# Altium integrated library TI Power Management Power Modules.IntLib: 831 symbols (part 23 of 44)
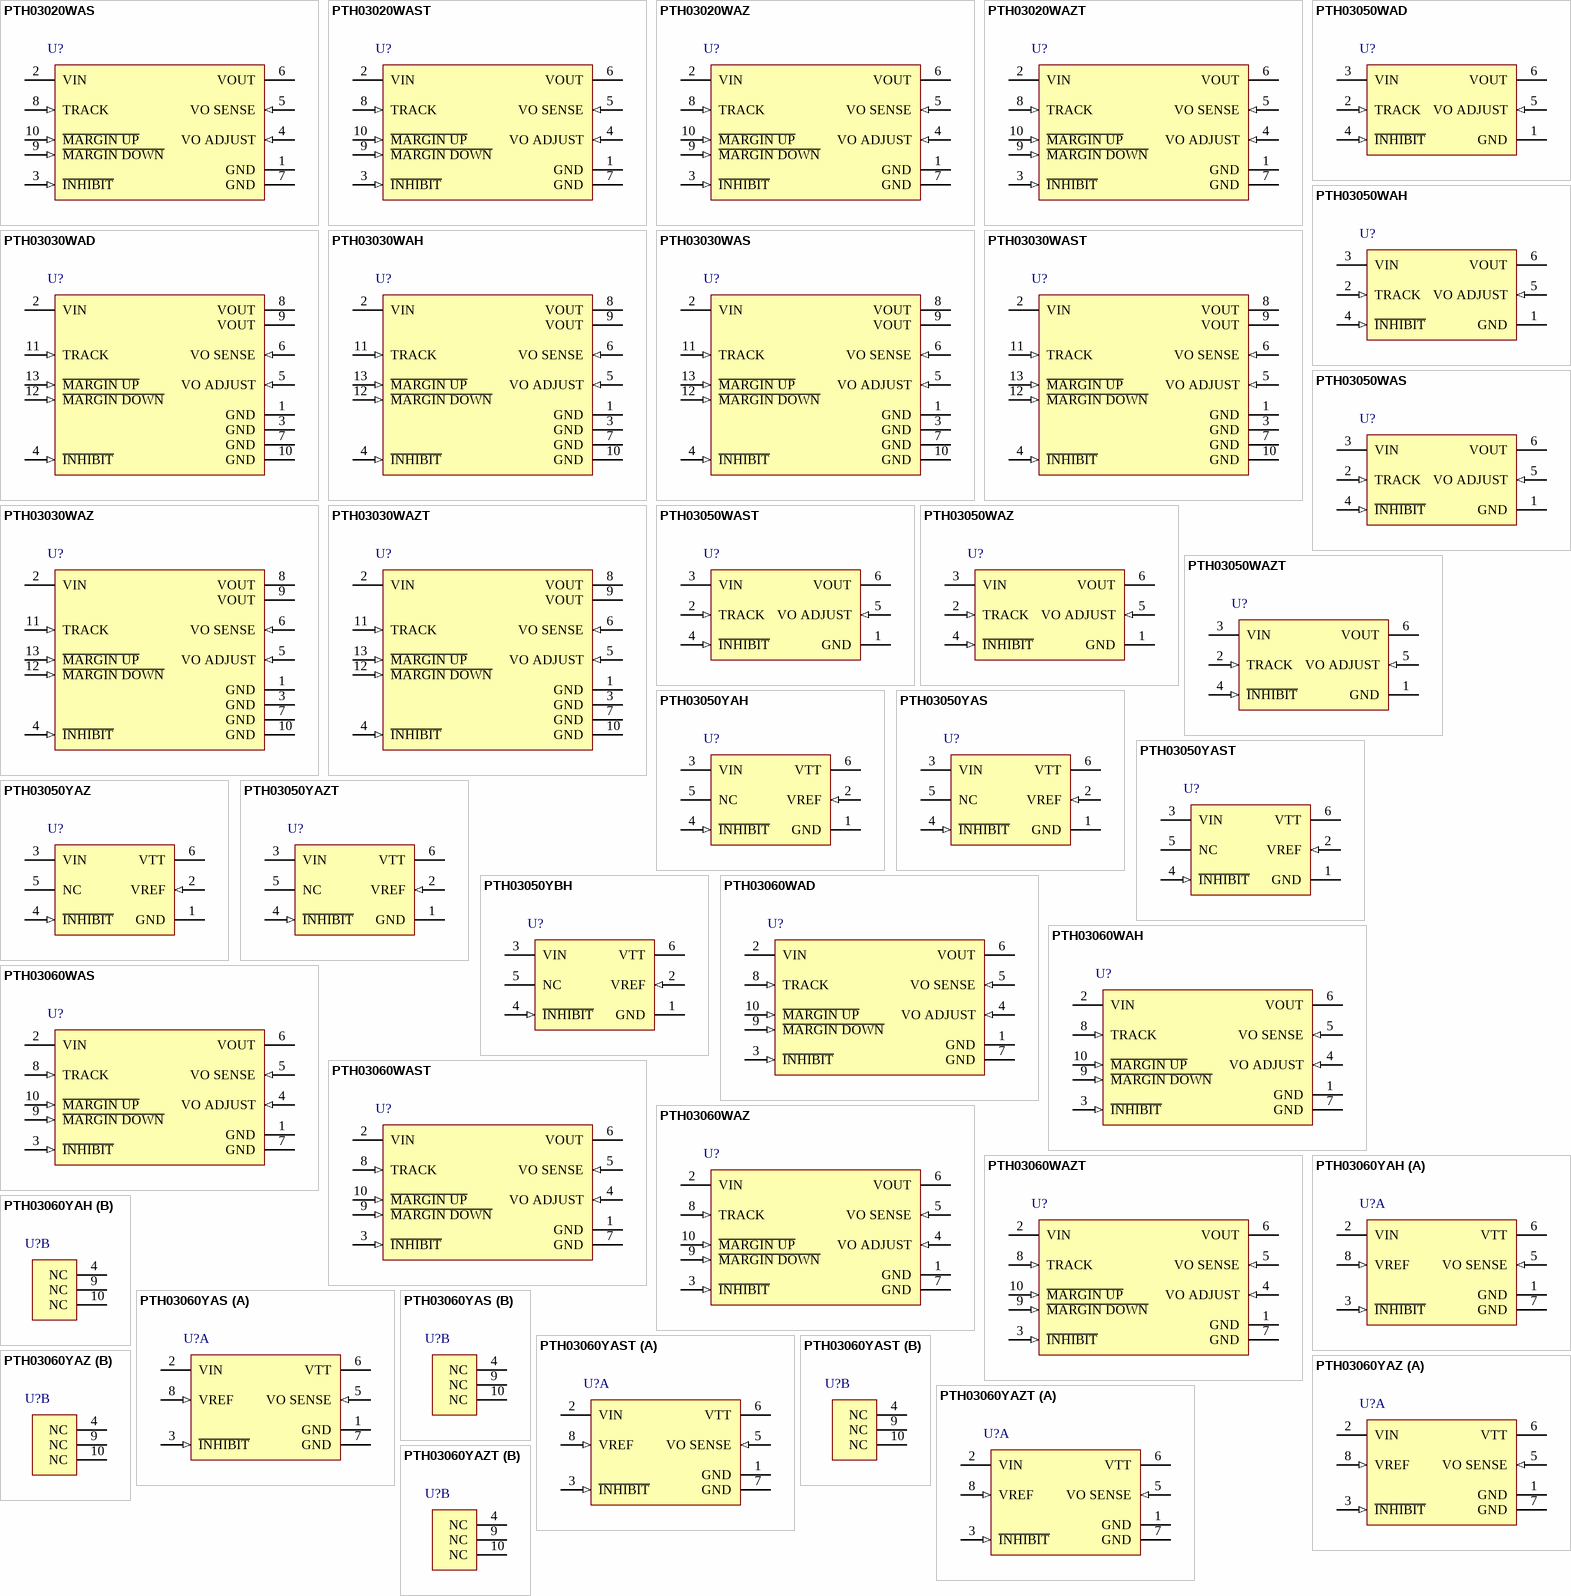
[diagram p45: symbols PTH03020WAS to PTH03060YAZT]

## PTH03030WAS
designator U?
30 A, 3.3 V Input Wide-Output Adjust Plug-in Power Module, -40 to 85 degC, 13-pin Module (EUN13); Manufacturer: Texas Instruments; PartNumber: PTH03030WAS; Eco-Plan: TBD; Iout(Max)(A): 30; Regulated Outputs(#): 1; SubFamily: Non-Isolated POL; Vin(Max)(V): 3.65; Vin(Min)(V): 2.95; VO Adjustable: TRUE; Vout(Max)(V): 2.5; Vout(Min)(V): 0.8; DatasheetVersion: SLTS209B; PackageVersion: 4204989/B; PackageReference: EUN13; PackageDescription: 13-Pin Plastic Special Shape. Body 28.45 x 34.8 mm; Supplier 1: Digi-Key; Supplier Part Number 1: 296-20379-ND; Supplier 2: Mouser; Supplier Part Number 2: 595-PTH03030WAS; Mounting Technology: Surface Mount; ComponentLink1Description: Manufacturer URL; ComponentLink1URL: http://www.ti.com/; ComponentLink2Description: Datasheet; ComponentLink2URL: http://www.ti.com/general/docs/lit/getliterature.tsp?genericPartNumber=PTH03030W&fileType=pdf; ComponentLink3Description: Package Specification; ComponentLink3URL: http://www.ti.com/lit/ml/mpds135a/mpds135a.pdf; ComponentLink4Description: URL Link1; ComponentLink4URL: Samples URL:http://www.ti.com/product/pth03030w#samples
footprint TI-EUN13_V (Module, 13-Leads, Body 34.8x28.45mm)
pins: 1 GND (power) "This is the common ground connection for the Vin and Vout power connections. It is also the 0 VDC reference for the control inputs.", 2 VIN (power) "The positive input voltage power node to the module, which is referenced to common GND.", 3 GND (power) "This is the common ground connection for the Vin and Vout power connections. It is also the 0 VDC reference for the control inputs.", 4 ~{INHIBIT} (in) "The Inhibit pin is an open-collector/drain negative logic input that is referenced to GND. Applying a lowlevel ground signal to this input disables the module’s output and turns off the output voltage. When the Inhibit (See Datasheet)", 5 VO ADJUST (in) "A 0.1 W 1 % resistor must be directly connected between this pin and pin 7 (GND) to set the output voltage to a value higher than 0.8 V. The temperature stability of the resistor should be 100 ppm/degreesC (or better). The (See Datasheet)", 6 VO SENSE (in) "The sense input allows the regulation circuit to compensate for voltage drop between the module and the load. For optimal voltage accuracy Vo Sense should be connected to Vout. It can also be left disconnected.", 7 GND (power) "This is the common ground connection for the Vin and Vout power connections. It is also the 0 VDC reference for the control inputs.", 8 VOUT (power) "The regulated positive power output with respect to the GND node.", 9 VOUT (power) "The regulated positive power output with respect to the GND node.", 10 GND (power) "This is the common ground connection for the Vin and Vout power connections. It is also the 0 VDC reference for the control inputs.", 11 TRACK (in) "This is an analog control input that enables the output voltage to follow an external voltage. This pin becomes active typically 20 ms after the input voltage has been applied, and allows direct control of the output voltage (See Datasheet)", 12 ~{MARGIN DOWN} (in) "When this input is asserted to GND, the output voltage is decreased by 5% from the nominal. The input requires an open-collector (open-drain) interface. It is not TTL compatible. A lower percent change can be accomodated (See Datasheet)", 13 ~{MARGIN UP} (in) "When this input is asserted to GND, the output voltage is increased by 5%. The input requires an open-collector (open-drain) interface. It is not TTL compatible. The percent change can be reduced with a series resistor. For (See Datasheet)"

## PTH03030WAST
designator U?
30 A, 3.3 V Input Wide-Output Adjust Plug-in Power Module, -40 to 85 degC, 13-pin Module (EUN13); Manufacturer: Texas Instruments; PartNumber: PTH03030WAST; Eco-Plan: TBD; Iout(Max)(A): 30; Regulated Outputs(#): 1; SubFamily: Non-Isolated POL; Vin(Max)(V): 3.65; Vin(Min)(V): 2.95; VO Adjustable: TRUE; Vout(Max)(V): 2.5; Vout(Min)(V): 0.8; DatasheetVersion: SLTS209B; PackageVersion: 4204989/B; PackageReference: EUN13; PackageDescription: 13-Pin Plastic Special Shape. Body 28.45 x 34.8 mm; Supplier 1: Digi-Key; Supplier Part Number 1: PTH03030WAST-ND; Supplier 2: Newark; Supplier Part Number 2: 01J0626; Supplier 3: Mouser; Supplier Part Number 3: 595-PTH03030WAST; Mounting Technology: Surface Mount; ComponentLink1Description: Manufacturer URL; ComponentLink1URL: http://www.ti.com/; ComponentLink2Description: Datasheet; ComponentLink2URL: http://www.ti.com/general/docs/lit/getliterature.tsp?genericPartNumber=PTH03030W&fileType=pdf; ComponentLink3Description: Package Specification; ComponentLink3URL: http://www.ti.com/lit/ml/mpds135a/mpds135a.pdf; ComponentLink4Description: URL Link1; ComponentLink4URL: Samples URL:http://www.ti.com/product/pth03030w#samples
footprint TI-EUN13_V (Module, 13-Leads, Body 34.8x28.45mm)
pins: 1 GND (power) "This is the common ground connection for the Vin and Vout power connections. It is also the 0 VDC reference for the control inputs.", 2 VIN (power) "The positive input voltage power node to the module, which is referenced to common GND.", 3 GND (power) "This is the common ground connection for the Vin and Vout power connections. It is also the 0 VDC reference for the control inputs.", 4 ~{INHIBIT} (in) "The Inhibit pin is an open-collector/drain negative logic input that is referenced to GND. Applying a lowlevel ground signal to this input disables the module’s output and turns off the output voltage. When the Inhibit (See Datasheet)", 5 VO ADJUST (in) "A 0.1 W 1 % resistor must be directly connected between this pin and pin 7 (GND) to set the output voltage to a value higher than 0.8 V. The temperature stability of the resistor should be 100 ppm/degreesC (or better). The (See Datasheet)", 6 VO SENSE (in) "The sense input allows the regulation circuit to compensate for voltage drop between the module and the load. For optimal voltage accuracy Vo Sense should be connected to Vout. It can also be left disconnected.", 7 GND (power) "This is the common ground connection for the Vin and Vout power connections. It is also the 0 VDC reference for the control inputs.", 8 VOUT (power) "The regulated positive power output with respect to the GND node.", 9 VOUT (power) "The regulated positive power output with respect to the GND node.", 10 GND (power) "This is the common ground connection for the Vin and Vout power connections. It is also the 0 VDC reference for the control inputs.", 11 TRACK (in) "This is an analog control input that enables the output voltage to follow an external voltage. This pin becomes active typically 20 ms after the input voltage has been applied, and allows direct control of the output voltage (See Datasheet)", 12 ~{MARGIN DOWN} (in) "When this input is asserted to GND, the output voltage is decreased by 5% from the nominal. The input requires an open-collector (open-drain) interface. It is not TTL compatible. A lower percent change can be accomodated (See Datasheet)", 13 ~{MARGIN UP} (in) "When this input is asserted to GND, the output voltage is increased by 5%. The input requires an open-collector (open-drain) interface. It is not TTL compatible. The percent change can be reduced with a series resistor. For (See Datasheet)"

## PTH03030WAZ
designator U?
30 A, 3.3 V Input Wide-Output Adjust Plug-in Power Module, -40 to 85 degC, 13-pin Module (EUN13), Pb-Free (RoHS); Manufacturer: Texas Instruments; PartNumber: PTH03030WAZ; Iout(Max)(A): 30; Regulated Outputs(#): 1; SubFamily: Non-Isolated POL; Vin(Max)(V): 3.65; Vin(Min)(V): 2.95; VO Adjustable: TRUE; Vout(Max)(V): 2.5; Vout(Min)(V): 0.8; DatasheetVersion: SLTS209B; PackageVersion: 4204989/B; PackageReference: EUN13; PackageDescription: 13-Pin Plastic Special Shape. Body 28.45 x 34.8 mm; Supplier 1: Digi-Key; Supplier Part Number 1: 296-20380-ND; Supplier 2: Newark; Supplier Part Number 2: 37K0701; Supplier 3: Mouser; Supplier Part Number 3: 595-PTH03030WAZ; Eco-Plan: Pb-Free (RoHS); Mounting Technology: Surface Mount; ComponentLink1Description: Manufacturer URL; ComponentLink1URL: http://www.ti.com/; ComponentLink2Description: Datasheet; ComponentLink2URL: http://www.ti.com/general/docs/lit/getliterature.tsp?genericPartNumber=PTH03030W&fileType=pdf; ComponentLink3Description: Package Specification; ComponentLink3URL: http://www.ti.com/lit/ml/mpds135a/mpds135a.pdf; ComponentLink4Description: URL Link1; ComponentLink4URL: Samples URL:http://www.ti.com/product/pth03030w#samples
footprint TI-EUN13_V (Module, 13-Leads, Body 34.8x28.45mm)
pins: 1 GND (power) "This is the common ground connection for the Vin and Vout power connections. It is also the 0 VDC reference for the control inputs.", 2 VIN (power) "The positive input voltage power node to the module, which is referenced to common GND.", 3 GND (power) "This is the common ground connection for the Vin and Vout power connections. It is also the 0 VDC reference for the control inputs.", 4 ~{INHIBIT} (in) "The Inhibit pin is an open-collector/drain negative logic input that is referenced to GND. Applying a lowlevel ground signal to this input disables the module’s output and turns off the output voltage. When the Inhibit (See Datasheet)", 5 VO ADJUST (in) "A 0.1 W 1 % resistor must be directly connected between this pin and pin 7 (GND) to set the output voltage to a value higher than 0.8 V. The temperature stability of the resistor should be 100 ppm/degreesC (or better). The (See Datasheet)", 6 VO SENSE (in) "The sense input allows the regulation circuit to compensate for voltage drop between the module and the load. For optimal voltage accuracy Vo Sense should be connected to Vout. It can also be left disconnected.", 7 GND (power) "This is the common ground connection for the Vin and Vout power connections. It is also the 0 VDC reference for the control inputs.", 8 VOUT (power) "The regulated positive power output with respect to the GND node.", 9 VOUT (power) "The regulated positive power output with respect to the GND node.", 10 GND (power) "This is the common ground connection for the Vin and Vout power connections. It is also the 0 VDC reference for the control inputs.", 11 TRACK (in) "This is an analog control input that enables the output voltage to follow an external voltage. This pin becomes active typically 20 ms after the input voltage has been applied, and allows direct control of the output voltage (See Datasheet)", 12 ~{MARGIN DOWN} (in) "When this input is asserted to GND, the output voltage is decreased by 5% from the nominal. The input requires an open-collector (open-drain) interface. It is not TTL compatible. A lower percent change can be accomodated (See Datasheet)", 13 ~{MARGIN UP} (in) "When this input is asserted to GND, the output voltage is increased by 5%. The input requires an open-collector (open-drain) interface. It is not TTL compatible. The percent change can be reduced with a series resistor. For (See Datasheet)"

## PTH03030WAZT
designator U?
30 A, 3.3 V Input Wide-Output Adjust Plug-in Power Module, -40 to 85 degC, 13-pin Module (EUN13), Pb-Free (RoHS); Manufacturer: Texas Instruments; PartNumber: PTH03030WAZT; Iout(Max)(A): 30; Regulated Outputs(#): 1; SubFamily: Non-Isolated POL; Vin(Max)(V): 3.65; Vin(Min)(V): 2.95; VO Adjustable: TRUE; Vout(Max)(V): 2.5; Vout(Min)(V): 0.8; DatasheetVersion: SLTS209B; PackageVersion: 4204989/B; PackageReference: EUN13; PackageDescription: 13-Pin Plastic Special Shape. Body 28.45 x 34.8 mm; Supplier 1: Digi-Key; Supplier Part Number 1: PTH03030WAZT-ND; Supplier 2: Newark; Supplier Part Number 2: 37K0702; Supplier 3: Mouser; Supplier Part Number 3: 595-PTH03030WAZT; Eco-Plan: Pb-Free (RoHS); Mounting Technology: Surface Mount; ComponentLink1Description: Manufacturer URL; ComponentLink1URL: http://www.ti.com/; ComponentLink2Description: Datasheet; ComponentLink2URL: http://www.ti.com/general/docs/lit/getliterature.tsp?genericPartNumber=PTH03030W&fileType=pdf; ComponentLink3Description: Package Specification; ComponentLink3URL: http://www.ti.com/lit/ml/mpds135a/mpds135a.pdf; ComponentLink4Description: URL Link1; ComponentLink4URL: Samples URL:http://www.ti.com/product/pth03030w#samples
footprint TI-EUN13_V (Module, 13-Leads, Body 34.8x28.45mm)
pins: 1 GND (power) "This is the common ground connection for the Vin and Vout power connections. It is also the 0 VDC reference for the control inputs.", 2 VIN (power) "The positive input voltage power node to the module, which is referenced to common GND.", 3 GND (power) "This is the common ground connection for the Vin and Vout power connections. It is also the 0 VDC reference for the control inputs.", 4 ~{INHIBIT} (in) "The Inhibit pin is an open-collector/drain negative logic input that is referenced to GND. Applying a lowlevel ground signal to this input disables the module’s output and turns off the output voltage. When the Inhibit (See Datasheet)", 5 VO ADJUST (in) "A 0.1 W 1 % resistor must be directly connected between this pin and pin 7 (GND) to set the output voltage to a value higher than 0.8 V. The temperature stability of the resistor should be 100 ppm/degreesC (or better). The (See Datasheet)", 6 VO SENSE (in) "The sense input allows the regulation circuit to compensate for voltage drop between the module and the load. For optimal voltage accuracy Vo Sense should be connected to Vout. It can also be left disconnected.", 7 GND (power) "This is the common ground connection for the Vin and Vout power connections. It is also the 0 VDC reference for the control inputs.", 8 VOUT (power) "The regulated positive power output with respect to the GND node.", 9 VOUT (power) "The regulated positive power output with respect to the GND node.", 10 GND (power) "This is the common ground connection for the Vin and Vout power connections. It is also the 0 VDC reference for the control inputs.", 11 TRACK (in) "This is an analog control input that enables the output voltage to follow an external voltage. This pin becomes active typically 20 ms after the input voltage has been applied, and allows direct control of the output voltage (See Datasheet)", 12 ~{MARGIN DOWN} (in) "When this input is asserted to GND, the output voltage is decreased by 5% from the nominal. The input requires an open-collector (open-drain) interface. It is not TTL compatible. A lower percent change can be accomodated (See Datasheet)", 13 ~{MARGIN UP} (in) "When this input is asserted to GND, the output voltage is increased by 5%. The input requires an open-collector (open-drain) interface. It is not TTL compatible. The percent change can be reduced with a series resistor. For (See Datasheet)"

## PTH03050WAD
designator U?
6 A, 3.3 V Input Non-Isolated Wide Adjust Module with Auto-Track, -40 to 85 degC, 6-pin Module (EUU6), Pb-Free (RoHS); Manufacturer: Texas Instruments; PartNumber: PTH03050WAD; Iout(Max)(A): 6; Regulated Outputs(#): 1; SubFamily: Non-Isolated POL; Vin(Max)(V): 3.65; Vin(Min)(V): 2.95; VO Adjustable: TRUE; Vout(Max)(V): 2.5; Vout(Min)(V): 0.8; DatasheetVersion: SLTS212C; PackageVersion: 4205246-4/C; PackageReference: EUU6; PackageDescription: 6-Pin Plastic Special Shape, Body 12.57 x 22.1 mm; Supplier 1: Digi-Key; Supplier Part Number 1: 296-32713-ND; Supplier 2: Farnell; Supplier Part Number 2: 1103273; Supplier 3: Newark; Supplier Part Number 3: 63K6092; Supplier 4: Mouser; Supplier Part Number 4: 595-PTH03050WAD; Eco-Plan: Pb-Free (RoHS); Mounting Technology: Through Hole; ComponentLink1Description: Manufacturer URL; ComponentLink1URL: http://www.ti.com/; ComponentLink2Description: Datasheet; ComponentLink2URL: http://www.ti.com/general/docs/lit/getliterature.tsp?genericPartNumber=PTH03050W&fileType=pdf; ComponentLink3Description: Package Specification; ComponentLink3URL: http://www.ti.com/lit/ml/mpds142b/mpds142b.pdf; ComponentLink4Description: URL Link1; ComponentLink4URL: Samples URL:http://www.ti.com/product/pth03050w#samples
footprint TI-EUU6_V (Module, 6-Leads, Body 22.1.12x12.57mm)
pins: 1 GND (power) "This is the common ground connection for the VI and VO power connections. It is also the 0 Vdc reference for the Inhibit , the VO Adjust, and the Track control inputs.", 2 TRACK (in) "This is an analog control input that enables the output voltage to follow an external voltage. This pin becomes active typically 20 ms after the input voltage has been applied, and allows direct control of the output voltage (See Datasheet)", 3 VIN (power) "The positive input voltage power node to the module, which is referenced to common GND.", 4 ~{INHIBIT} (in) "The Inhibit pin is an open-collector/drain-negative logic input that is referenced to GND. Applying a low-level ground signal to this input disables the module's output. When the Inhibit control is active, the input current (See Datasheet)", 5 VO ADJUST (in) "A 0.1 W 1 % resistor must be directly connected between this pin and GND to set the output voltage to a value higher than 0.8 V. The temperature stability of the resistor should be 100 ppm/degreesC (or better). The setpoint (See Datasheet)", 6 VOUT (power) "The regulated positive power output with respect to the GND node"

## PTH03050WAH
designator U?
6 A, 3.3 V Input Non-Isolated Wide Adjust Module with Auto-Track, -40 to 85 degC, 6-pin Module (EUU6), Pb-Free (RoHS); Manufacturer: Texas Instruments; PartNumber: PTH03050WAH; Iout(Max)(A): 6; Regulated Outputs(#): 1; SubFamily: Non-Isolated POL; Vin(Max)(V): 3.65; Vin(Min)(V): 2.95; VO Adjustable: TRUE; Vout(Max)(V): 2.5; Vout(Min)(V): 0.8; DatasheetVersion: SLTS212C; PackageVersion: 4205246-4/C; PackageReference: EUU6; PackageDescription: 6-Pin Plastic Special Shape, Body 12.57 x 22.1 mm; Supplier 1: Digi-Key; Supplier Part Number 1: 296-20381-ND; Supplier 2: Newark; Supplier Part Number 2: 90H3318; Supplier 3: Mouser; Supplier Part Number 3: 595-PTH03050WAH; Eco-Plan: Pb-Free (RoHS); Mounting Technology: Through Hole; ComponentLink1Description: Manufacturer URL; ComponentLink1URL: http://www.ti.com/; ComponentLink2Description: Datasheet; ComponentLink2URL: http://www.ti.com/general/docs/lit/getliterature.tsp?genericPartNumber=PTH03050W&fileType=pdf; ComponentLink3Description: Package Specification; ComponentLink3URL: http://www.ti.com/lit/ml/mpds142b/mpds142b.pdf; ComponentLink4Description: URL Link1; ComponentLink4URL: Samples URL:http://www.ti.com/product/pth03050w#samples
footprint TI-EUU6_V (Module, 6-Leads, Body 22.1.12x12.57mm)
pins: 1 GND (power) "This is the common ground connection for the VI and VO power connections. It is also the 0 Vdc reference for the Inhibit , the VO Adjust, and the Track control inputs.", 2 TRACK (in) "This is an analog control input that enables the output voltage to follow an external voltage. This pin becomes active typically 20 ms after the input voltage has been applied, and allows direct control of the output voltage (See Datasheet)", 3 VIN (power) "The positive input voltage power node to the module, which is referenced to common GND.", 4 ~{INHIBIT} (in) "The Inhibit pin is an open-collector/drain-negative logic input that is referenced to GND. Applying a low-level ground signal to this input disables the module's output. When the Inhibit control is active, the input current (See Datasheet)", 5 VO ADJUST (in) "A 0.1 W 1 % resistor must be directly connected between this pin and GND to set the output voltage to a value higher than 0.8 V. The temperature stability of the resistor should be 100 ppm/degreesC (or better). The setpoint (See Datasheet)", 6 VOUT (power) "The regulated positive power output with respect to the GND node"

## PTH03050WAS
designator U?
6 A, 3.3 V Input Non-Isolated Wide Adjust Module with Auto-Track, -40 to 85 degC, 6-pin Module (EUV6); Manufacturer: Texas Instruments; PartNumber: PTH03050WAS; Eco-Plan: TBD; Iout(Max)(A): 6; Regulated Outputs(#): 1; SubFamily: Non-Isolated POL; Vin(Max)(V): 3.65; Vin(Min)(V): 2.95; VO Adjustable: TRUE; Vout(Max)(V): 2.5; Vout(Min)(V): 0.8; DatasheetVersion: SLTS212C; PackageVersion: 4205247-4/C; PackageReference: EUV6; PackageDescription: 6-Pin Plastic Special Shape, Body 12.57 x 22.1 mm; Supplier 1: Digi-Key; Supplier Part Number 1: 296-20382-ND; Supplier 2: Newark; Supplier Part Number 2: 90H3319; Supplier 3: Mouser; Supplier Part Number 3: 595-PTH03050WAS; Mounting Technology: Surface Mount; ComponentLink1Description: Manufacturer URL; ComponentLink1URL: http://www.ti.com/; ComponentLink2Description: Datasheet; ComponentLink2URL: http://www.ti.com/general/docs/lit/getliterature.tsp?genericPartNumber=PTH03050W&fileType=pdf; ComponentLink3Description: Package Specification; ComponentLink3URL: http://www.ti.com/lit/ml/mpds143b/mpds143b.pdf; ComponentLink4Description: URL Link1; ComponentLink4URL: Samples URL:http://www.ti.com/product/pth03050w#samples
footprint TI-EUV6_V (Module, 6-Leads, Body 22.1x12.57mm)
pins: 1 GND (power) "This is the common ground connection for the VI and VO power connections. It is also the 0 Vdc reference for the Inhibit , the VO Adjust, and the Track control inputs.", 2 TRACK (in) "This is an analog control input that enables the output voltage to follow an external voltage. This pin becomes active typically 20 ms after the input voltage has been applied, and allows direct control of the output voltage (See Datasheet)", 3 VIN (power) "The positive input voltage power node to the module, which is referenced to common GND.", 4 ~{INHIBIT} (in) "The Inhibit pin is an open-collector/drain-negative logic input that is referenced to GND. Applying a low-level ground signal to this input disables the module's output. When the Inhibit control is active, the input current (See Datasheet)", 5 VO ADJUST (in) "A 0.1 W 1 % resistor must be directly connected between this pin and GND to set the output voltage to a value higher than 0.8 V. The temperature stability of the resistor should be 100 ppm/degreesC (or better). The setpoint (See Datasheet)", 6 VOUT (power) "The regulated positive power output with respect to the GND node"

## PTH03050WAST
designator U?
6 A, 3.3 V Input Non-Isolated Wide Adjust Module with Auto-Track, -40 to 85 degC, 6-pin Module (EUV6); Manufacturer: Texas Instruments; PartNumber: PTH03050WAST; Eco-Plan: TBD; Iout(Max)(A): 6; Regulated Outputs(#): 1; SubFamily: Non-Isolated POL; Vin(Max)(V): 3.65; Vin(Min)(V): 2.95; VO Adjustable: TRUE; Vout(Max)(V): 2.5; Vout(Min)(V): 0.8; DatasheetVersion: SLTS212C; PackageVersion: 4205247-4/C; PackageReference: EUV6; PackageDescription: 6-Pin Plastic Special Shape, Body 12.57 x 22.1 mm; Supplier 1: Digi-Key; Supplier Part Number 1: PTH03050WAST-ND; Supplier 2: Newark; Supplier Part Number 2: 01J0627; Supplier 3: Mouser; Supplier Part Number 3: 595-PTH03050WAST; Mounting Technology: Surface Mount; ComponentLink1Description: Manufacturer URL; ComponentLink1URL: http://www.ti.com/; ComponentLink2Description: Datasheet; ComponentLink2URL: http://www.ti.com/general/docs/lit/getliterature.tsp?genericPartNumber=PTH03050W&fileType=pdf; ComponentLink3Description: Package Specification; ComponentLink3URL: http://www.ti.com/lit/ml/mpds143b/mpds143b.pdf; ComponentLink4Description: URL Link1; ComponentLink4URL: Samples URL:http://www.ti.com/product/pth03050w#samples
footprint TI-EUV6_V (Module, 6-Leads, Body 22.1x12.57mm)
pins: 1 GND (power) "This is the common ground connection for the VI and VO power connections. It is also the 0 Vdc reference for the Inhibit , the VO Adjust, and the Track control inputs.", 2 TRACK (in) "This is an analog control input that enables the output voltage to follow an external voltage. This pin becomes active typically 20 ms after the input voltage has been applied, and allows direct control of the output voltage (See Datasheet)", 3 VIN (power) "The positive input voltage power node to the module, which is referenced to common GND.", 4 ~{INHIBIT} (in) "The Inhibit pin is an open-collector/drain-negative logic input that is referenced to GND. Applying a low-level ground signal to this input disables the module's output. When the Inhibit control is active, the input current (See Datasheet)", 5 VO ADJUST (in) "A 0.1 W 1 % resistor must be directly connected between this pin and GND to set the output voltage to a value higher than 0.8 V. The temperature stability of the resistor should be 100 ppm/degreesC (or better). The setpoint (See Datasheet)", 6 VOUT (power) "The regulated positive power output with respect to the GND node"

## PTH03050WAZ
designator U?
6 A, 3.3 V Input Non-Isolated Wide Adjust Module with Auto-Track, -40 to 85 degC, 6-pin Module (EUV6), Pb-Free (RoHS); Manufacturer: Texas Instruments; PartNumber: PTH03050WAZ; Iout(Max)(A): 6; Regulated Outputs(#): 1; SubFamily: Non-Isolated POL; Vin(Max)(V): 3.65; Vin(Min)(V): 2.95; VO Adjustable: TRUE; Vout(Max)(V): 2.5; Vout(Min)(V): 0.8; DatasheetVersion: SLTS212C; PackageVersion: 4205247-4/C; PackageReference: EUV6; PackageDescription: 6-Pin Plastic Special Shape, Body 12.57 x 22.1 mm; Supplier 1: Digi-Key; Supplier Part Number 1: 296-19758-ND; Supplier 2: Farnell; Supplier Part Number 2: 1103274; Supplier 3: Newark; Supplier Part Number 3: 37K0703; Supplier 4: Mouser; Supplier Part Number 4: 595-PTH03050WAZ; Eco-Plan: Pb-Free (RoHS); Mounting Technology: Surface Mount; ComponentLink1Description: Manufacturer URL; ComponentLink1URL: http://www.ti.com/; ComponentLink2Description: Datasheet; ComponentLink2URL: http://www.ti.com/general/docs/lit/getliterature.tsp?genericPartNumber=PTH03050W&fileType=pdf; ComponentLink3Description: Package Specification; ComponentLink3URL: http://www.ti.com/lit/ml/mpds143b/mpds143b.pdf; ComponentLink4Description: URL Link1; ComponentLink4URL: Samples URL:http://www.ti.com/product/pth03050w#samples
footprint TI-EUV6_V (Module, 6-Leads, Body 22.1x12.57mm)
pins: 1 GND (power) "This is the common ground connection for the VI and VO power connections. It is also the 0 Vdc reference for the Inhibit , the VO Adjust, and the Track control inputs.", 2 TRACK (in) "This is an analog control input that enables the output voltage to follow an external voltage. This pin becomes active typically 20 ms after the input voltage has been applied, and allows direct control of the output voltage (See Datasheet)", 3 VIN (power) "The positive input voltage power node to the module, which is referenced to common GND.", 4 ~{INHIBIT} (in) "The Inhibit pin is an open-collector/drain-negative logic input that is referenced to GND. Applying a low-level ground signal to this input disables the module's output. When the Inhibit control is active, the input current (See Datasheet)", 5 VO ADJUST (in) "A 0.1 W 1 % resistor must be directly connected between this pin and GND to set the output voltage to a value higher than 0.8 V. The temperature stability of the resistor should be 100 ppm/degreesC (or better). The setpoint (See Datasheet)", 6 VOUT (power) "The regulated positive power output with respect to the GND node"

## PTH03050WAZT
designator U?
6 A, 3.3 V Input Non-Isolated Wide Adjust Module with Auto-Track, -40 to 85 degC, 6-pin Module (EUV6), Pb-Free (RoHS); Manufacturer: Texas Instruments; PartNumber: PTH03050WAZT; Iout(Max)(A): 6; Regulated Outputs(#): 1; SubFamily: Non-Isolated POL; Vin(Max)(V): 3.65; Vin(Min)(V): 2.95; VO Adjustable: TRUE; Vout(Max)(V): 2.5; Vout(Min)(V): 0.8; DatasheetVersion: SLTS212C; PackageVersion: 4205247-4/C; PackageReference: EUV6; PackageDescription: 6-Pin Plastic Special Shape, Body 12.57 x 22.1 mm; Supplier 1: Digi-Key; Supplier Part Number 1: PTH03050WAZT-ND; Supplier 2: Farnell; Supplier Part Number 2: 1408530; Supplier 3: Newark; Supplier Part Number 3: 37K0704; Supplier 4: Mouser; Supplier Part Number 4: 595-PTH03050WAZT; Eco-Plan: Pb-Free (RoHS); Mounting Technology: Surface Mount; ComponentLink1Description: Manufacturer URL; ComponentLink1URL: http://www.ti.com/; ComponentLink2Description: Datasheet; ComponentLink2URL: http://www.ti.com/general/docs/lit/getliterature.tsp?genericPartNumber=PTH03050W&fileType=pdf; ComponentLink3Description: Package Specification; ComponentLink3URL: http://www.ti.com/lit/ml/mpds143b/mpds143b.pdf; ComponentLink4Description: URL Link1; ComponentLink4URL: Samples URL:http://www.ti.com/product/tps55010#samples
footprint TI-EUV6_V (Module, 6-Leads, Body 22.1x12.57mm)
pins: 1 GND (power) "This is the common ground connection for the VI and VO power connections. It is also the 0 Vdc reference for the Inhibit , the VO Adjust, and the Track control inputs.", 2 TRACK (in) "This is an analog control input that enables the output voltage to follow an external voltage. This pin becomes active typically 20 ms after the input voltage has been applied, and allows direct control of the output voltage (See Datasheet)", 3 VIN (power) "The positive input voltage power node to the module, which is referenced to common GND.", 4 ~{INHIBIT} (in) "The Inhibit pin is an open-collector/drain-negative logic input that is referenced to GND. Applying a low-level ground signal to this input disables the module's output. When the Inhibit control is active, the input current (See Datasheet)", 5 VO ADJUST (in) "A 0.1 W 1 % resistor must be directly connected between this pin and GND to set the output voltage to a value higher than 0.8 V. The temperature stability of the resistor should be 100 ppm/degreesC (or better). The setpoint (See Datasheet)", 6 VOUT (power) "The regulated positive power output with respect to the GND node"

## PTH03050YAH
designator U?
6 A 3.3 V Input Bus Termination Power Module for DDR / QDR Memory, -40 to 85 degC, 6-pin Module (EUU6), Pb-Free (RoHS); Manufacturer: Texas Instruments; PartNumber: PTH03050YAH; Iout(Max)(A): 6; Regulated Outputs(#): 1; SubFamily: Non-Isolated POL; Vin(Max)(V): 3.65; Vin(Min)(V): 2.95; Vout(Max)(V): 1.8; Vout(Min)(V): 0.55; DatasheetVersion: SLTS221A; PackageVersion: 4205246-4/C; PackageReference: EUU6; PackageDescription: 6-Pin Plastic Special Shape, Body 12.57 x 22.1 mm; Supplier 1: Digi-Key; Supplier Part Number 1: 296-19802-ND; Supplier 2: Newark; Supplier Part Number 2: 10J9541; Supplier 3: Mouser; Supplier Part Number 3: 595-PTH03050YAH; Eco-Plan: Pb-Free (RoHS); Mounting Technology: Through Hole; ComponentLink1Description: Manufacturer URL; ComponentLink1URL: http://www.ti.com/; ComponentLink2Description: Datasheet; ComponentLink2URL: http://www.ti.com/general/docs/lit/getliterature.tsp?genericPartNumber=PTH03050Y&fileType=pdf; ComponentLink3Description: Package Specification; ComponentLink3URL: http://www.ti.com/lit/ml/mpds142b/mpds142b.pdf; ComponentLink4Description: URL Link1; ComponentLink4URL: Samples URL:http://www.ti.com/product/pth03050y#samples
footprint TI-EUU6_V (Module, 6-Leads, Body 22.1.12x12.57mm)
pins: 1 GND (power) "This is the common ground connection for the VIN and VTT power connections. It is also the 0-VDC reference for the control inputs.", 2 VREF (in) "The module senses the voltage at this input to regulate the output voltage, VTT. The voltage at VREF is also the reference voltage for the system bus receiver comparators. It is normally set to precisely half the bus driver (See Datasheet)", 3 VIN (power) "The positive input voltage power node to the module, which is referenced to common GND.", 4 ~{INHIBIT} (in) "The Inhibit pin is an open-collector/drain negative logic input that is referenced to GND. Applying a low-level ground signal to this input turns off the output voltage, VTT. Although the module is inhibited, a voltage, VDDQ (See Datasheet)", 5 NC "No Connection", 6 VTT (power) "This is the regulated power output from the module with respect to the GND node, and the tracking termination supply for the application data and address buses. It is precisely regulated to the voltage applied to the (See Datasheet)"

## PTH03050YAS
designator U?
6 A 3.3 V Input Bus Termination Power Module for DDR / QDR Memory, -40 to 85 degC, 6-pin Module (EUV6); Manufacturer: Texas Instruments; PartNumber: PTH03050YAS; Eco-Plan: TBD; Iout(Max)(A): 6; Regulated Outputs(#): 1; SubFamily: Non-Isolated POL; Vin(Max)(V): 3.65; Vin(Min)(V): 2.95; Vout(Max)(V): 1.8; Vout(Min)(V): 0.55; DatasheetVersion: SLTS221A; PackageVersion: 4205247-4/C; PackageReference: EUV6; PackageDescription: 6-Pin Plastic Special Shape, Body 12.57 x 22.1 mm; Supplier 1: Digi-Key; Supplier Part Number 1: 296-20383-ND; Supplier 2: Newark; Supplier Part Number 2: 10J9542; Supplier 3: Mouser; Supplier Part Number 3: 595-PTH03050YAS; Mounting Technology: Surface Mount; ComponentLink1Description: Manufacturer URL; ComponentLink1URL: http://www.ti.com/; ComponentLink2Description: Datasheet; ComponentLink2URL: http://www.ti.com/general/docs/lit/getliterature.tsp?genericPartNumber=PTH03050Y&fileType=pdf; ComponentLink3Description: Package Specification; ComponentLink3URL: http://www.ti.com/lit/ml/mpds143b/mpds143b.pdf; ComponentLink4Description: URL Link1; ComponentLink4URL: Samples URL:http://www.ti.com/product/pth03050y#samples
footprint TI-EUV6_V (Module, 6-Leads, Body 22.1x12.57mm)
pins: 1 GND (power) "This is the common ground connection for the VIN and VTT power connections. It is also the 0-VDC reference for the control inputs.", 2 VREF (in) "The module senses the voltage at this input to regulate the output voltage, VTT. The voltage at VREF is also the reference voltage for the system bus receiver comparators. It is normally set to precisely half the bus driver (See Datasheet)", 3 VIN (power) "The positive input voltage power node to the module, which is referenced to common GND.", 4 ~{INHIBIT} (in) "The Inhibit pin is an open-collector/drain negative logic input that is referenced to GND. Applying a low-level ground signal to this input turns off the output voltage, VTT. Although the module is inhibited, a voltage, VDDQ (See Datasheet)", 5 NC "No Connection", 6 VTT (power) "This is the regulated power output from the module with respect to the GND node, and the tracking termination supply for the application data and address buses. It is precisely regulated to the voltage applied to the (See Datasheet)"

## PTH03050YAST
designator U?
6 A 3.3 V Input Bus Termination Power Module for DDR / QDR Memory, -40 to 85 degC, 6-pin Module (EUV6); Manufacturer: Texas Instruments; PartNumber: PTH03050YAST; Eco-Plan: TBD; Iout(Max)(A): 6; Regulated Outputs(#): 1; SubFamily: Non-Isolated POL; Vin(Max)(V): 3.65; Vin(Min)(V): 2.95; Vout(Max)(V): 1.8; Vout(Min)(V): 0.55; DatasheetVersion: SLTS221A; PackageVersion: 4205247-4/C; PackageReference: EUV6; PackageDescription: 6-Pin Plastic Special Shape, Body 12.57 x 22.1 mm; Supplier 1: Digi-Key; Supplier Part Number 1: PTH03050YAST-ND; Supplier 2: Newark; Supplier Part Number 2: 10J9543; Supplier 3: Mouser; Supplier Part Number 3: 595-PTH03050YAST; Mounting Technology: Surface Mount; ComponentLink1Description: Manufacturer URL; ComponentLink1URL: http://www.ti.com/; ComponentLink2Description: Datasheet; ComponentLink2URL: http://www.ti.com/general/docs/lit/getliterature.tsp?genericPartNumber=PTH03050Y&fileType=pdf; ComponentLink3Description: Package Specification; ComponentLink3URL: http://www.ti.com/lit/ml/mpds143b/mpds143b.pdf; ComponentLink4Description: URL Link1; ComponentLink4URL: Samples URL:http://www.ti.com/product/pth03050y#samples
footprint TI-EUV6_V (Module, 6-Leads, Body 22.1x12.57mm)
pins: 1 GND (power) "This is the common ground connection for the VIN and VTT power connections. It is also the 0-VDC reference for the control inputs.", 2 VREF (in) "The module senses the voltage at this input to regulate the output voltage, VTT. The voltage at VREF is also the reference voltage for the system bus receiver comparators. It is normally set to precisely half the bus driver (See Datasheet)", 3 VIN (power) "The positive input voltage power node to the module, which is referenced to common GND.", 4 ~{INHIBIT} (in) "The Inhibit pin is an open-collector/drain negative logic input that is referenced to GND. Applying a low-level ground signal to this input turns off the output voltage, VTT. Although the module is inhibited, a voltage, VDDQ (See Datasheet)", 5 NC "No Connection", 6 VTT (power) "This is the regulated power output from the module with respect to the GND node, and the tracking termination supply for the application data and address buses. It is precisely regulated to the voltage applied to the (See Datasheet)"

## PTH03050YAZ
designator U?
6 A 3.3 V Input Bus Termination Power Module for DDR / QDR Memory, -40 to 85 degC, 6-pin Module (EUV6), Pb-Free (RoHS); Manufacturer: Texas Instruments; PartNumber: PTH03050YAZ; Iout(Max)(A): 6; Regulated Outputs(#): 1; SubFamily: Non-Isolated POL; Vin(Max)(V): 3.65; Vin(Min)(V): 2.95; Vout(Max)(V): 1.8; Vout(Min)(V): 0.55; DatasheetVersion: SLTS221A; PackageVersion: 4205247-4/C; PackageReference: EUV6; PackageDescription: 6-Pin Plastic Special Shape, Body 12.57 x 22.1 mm; Supplier 1: Digi-Key; Supplier Part Number 1: 296-20384-ND; Supplier 2: Newark; Supplier Part Number 2: 37K0705; Supplier 3: Mouser; Supplier Part Number 3: 595-PTH03050YAZ; Eco-Plan: Pb-Free (RoHS); Mounting Technology: Surface Mount; ComponentLink1Description: Manufacturer URL; ComponentLink1URL: http://www.ti.com/; ComponentLink2Description: Datasheet; ComponentLink2URL: http://www.ti.com/general/docs/lit/getliterature.tsp?genericPartNumber=PTH03050Y&fileType=pdf; ComponentLink3Description: Package Specification; ComponentLink3URL: http://www.ti.com/lit/ml/mpds143b/mpds143b.pdf; ComponentLink4Description: URL Link1; ComponentLink4URL: Samples URL:http://www.ti.com/product/pth03050y#samples
footprint TI-EUV6_V (Module, 6-Leads, Body 22.1x12.57mm)
pins: 1 GND (power) "This is the common ground connection for the VIN and VTT power connections. It is also the 0-VDC reference for the control inputs.", 2 VREF (in) "The module senses the voltage at this input to regulate the output voltage, VTT. The voltage at VREF is also the reference voltage for the system bus receiver comparators. It is normally set to precisely half the bus driver (See Datasheet)", 3 VIN (power) "The positive input voltage power node to the module, which is referenced to common GND.", 4 ~{INHIBIT} (in) "The Inhibit pin is an open-collector/drain negative logic input that is referenced to GND. Applying a low-level ground signal to this input turns off the output voltage, VTT. Although the module is inhibited, a voltage, VDDQ (See Datasheet)", 5 NC "No Connection", 6 VTT (power) "This is the regulated power output from the module with respect to the GND node, and the tracking termination supply for the application data and address buses. It is precisely regulated to the voltage applied to the (See Datasheet)"

## PTH03050YAZT
designator U?
6 A 3.3 V Input Bus Termination Power Module for DDR / QDR Memory, -40 to 85 degC, 6-pin Module (EUV6), Pb-Free (RoHS); Manufacturer: Texas Instruments; PartNumber: PTH03050YAZT; Iout(Max)(A): 6; Regulated Outputs(#): 1; SubFamily: Non-Isolated POL; Vin(Max)(V): 3.65; Vin(Min)(V): 2.95; Vout(Max)(V): 1.8; Vout(Min)(V): 0.55; DatasheetVersion: SLTS221A; PackageVersion: 4205247-4/C; PackageReference: EUV6; PackageDescription: 6-Pin Plastic Special Shape, Body 12.57 x 22.1 mm; Supplier 1: Digi-Key; Supplier Part Number 1: PTH03050YAZT-ND; Supplier 2: Mouser; Supplier Part Number 2: 595-PTH03050YAZT; Eco-Plan: Pb-Free (RoHS); Mounting Technology: Surface Mount; ComponentLink1Description: Manufacturer URL; ComponentLink1URL: http://www.ti.com/; ComponentLink2Description: Datasheet; ComponentLink2URL: http://www.ti.com/general/docs/lit/getliterature.tsp?genericPartNumber=PTH03050Y&fileType=pdf; ComponentLink3Description: Package Specification; ComponentLink3URL: http://www.ti.com/lit/ml/mpds143b/mpds143b.pdf; ComponentLink4Description: URL Link1; ComponentLink4URL: Samples URL:http://www.ti.com/product/pth03050y#samples
footprint TI-EUV6_V (Module, 6-Leads, Body 22.1x12.57mm)
pins: 1 GND (power) "This is the common ground connection for the VIN and VTT power connections. It is also the 0-VDC reference for the control inputs.", 2 VREF (in) "The module senses the voltage at this input to regulate the output voltage, VTT. The voltage at VREF is also the reference voltage for the system bus receiver comparators. It is normally set to precisely half the bus driver (See Datasheet)", 3 VIN (power) "The positive input voltage power node to the module, which is referenced to common GND.", 4 ~{INHIBIT} (in) "The Inhibit pin is an open-collector/drain negative logic input that is referenced to GND. Applying a low-level ground signal to this input turns off the output voltage, VTT. Although the module is inhibited, a voltage, VDDQ (See Datasheet)", 5 NC "No Connection", 6 VTT (power) "This is the regulated power output from the module with respect to the GND node, and the tracking termination supply for the application data and address buses. It is precisely regulated to the voltage applied to the (See Datasheet)"

## PTH03050YBH
designator U?
6 A 3.3 V Input Bus Termination Power Module for DDR / QDR Memory, -40 to 85 degC, 6-pin Module (EUU6), Pb-Free (RoHS); Manufacturer: Texas Instruments; PartNumber: PTH03050YBH; Iout(Max)(A): 6; Regulated Outputs(#): 1; SubFamily: Non-Isolated POL; Vin(Max)(V): 3.65; Vin(Min)(V): 2.95; Vout(Max)(V): 1.8; Vout(Min)(V): 0.55; DatasheetVersion: SLTS221A; PackageVersion: 4205246-4/C; PackageReference: EUU6; PackageDescription: 6-Pin Plastic Special Shape, Body 12.57 x 22.1 mm; Supplier 1: Digi-Key; Supplier Part Number 1: PTH03050YBH-ND; Supplier 2: Mouser; Supplier Part Number 2: 595-PTH03050YBH; Eco-Plan: Pb-Free (RoHS); Mounting Technology: Through Hole; ComponentLink1Description: Manufacturer URL; ComponentLink1URL: http://www.ti.com/; ComponentLink2Description: Datasheet; ComponentLink2URL: http://www.ti.com/general/docs/lit/getliterature.tsp?genericPartNumber=PTH03050Y&fileType=pdf; ComponentLink3Description: Package Specification; ComponentLink3URL: http://www.ti.com/lit/ml/mpds142b/mpds142b.pdf; ComponentLink4Description: URL Link1; ComponentLink4URL: Samples URL:http://www.ti.com/product/pth03050y#samples
footprint TI-EUU6_V (Module, 6-Leads, Body 22.1.12x12.57mm)
pins: 1 GND (power) "This is the common ground connection for the VIN and VTT power connections. It is also the 0-VDC reference for the control inputs.", 2 VREF (in) "The module senses the voltage at this input to regulate the output voltage, VTT. The voltage at VREF is also the reference voltage for the system bus receiver comparators. It is normally set to precisely half the bus driver (See Datasheet)", 3 VIN (power) "The positive input voltage power node to the module, which is referenced to common GND.", 4 ~{INHIBIT} (in) "The Inhibit pin is an open-collector/drain negative logic input that is referenced to GND. Applying a low-level ground signal to this input turns off the output voltage, VTT. Although the module is inhibited, a voltage, VDDQ (See Datasheet)", 5 NC "No Connection", 6 VTT (power) "This is the regulated power output from the module with respect to the GND node, and the tracking termination supply for the application data and address buses. It is precisely regulated to the voltage applied to the (See Datasheet)"

## PTH03060WAD
designator U?
10 A, 3.3 V Input Non-Isolated Wide Adjust Module, -40 to 85 degC, 10-pin Module (EUW10), Pb-Free (RoHS); Manufacturer: Texas Instruments; PartNumber: PTH03060WAD; Iout(Max)(A): 10; Regulated Outputs(#): 1; SubFamily: Non-Isolated POL; Vin(Max)(V): 3.65; Vin(Min)(V): 2.95; VO Adjustable: TRUE; Vout(Max)(V): 2.5; Vout(Min)(V): 0.8; DatasheetVersion: SLTS215B; PackageVersion: 4205248-3/B; PackageReference: EUW10; PackageDescription: 10-Pin Plastic Special Shape, Body 15.75 x 25.27 mm; Supplier 1: Digi-Key; Supplier Part Number 1: PTH03060WADTI-ND; Supplier 2: Farnell; Supplier Part Number 2: 1103275; Supplier 3: Newark; Supplier Part Number 3: 66K4108; Supplier 4: Mouser; Supplier Part Number 4: 595-PTH03060WAD; Eco-Plan: Pb-Free (RoHS); Mounting Technology: Through Hole; ComponentLink1Description: Manufacturer URL; ComponentLink1URL: http://www.ti.com/; ComponentLink2Description: Datasheet; ComponentLink2URL: http://www.ti.com/general/docs/lit/getliterature.tsp?genericPartNumber=PTH03060W&fileType=pdf; ComponentLink3Description: Package Specification; ComponentLink3URL: http://www.ti.com/litv/pdf/mpds144a; ComponentLink4Description: URL Link1; ComponentLink4URL: Samples URL:http://www.ti.com/product/pth03060w#samples
footprint TI-EUW10_V (Module, 10-Leads, Body 25.27x15.75mm)
pins: 1 GND (power) "This is the common ground connection for the Vin and Vout power connections. It is also the 0 VDC reference for the control inputs", 2 VIN (power) "The positive input voltage power node to the module, which is referenced to common GND.", 3 ~{INHIBIT} (in) "The Inhibit pin is an open-collector/drain negative logic input that is referenced to GND. Applying a lowlevel ground signal to this input disables the module’s output and turns off the output voltage. When the Inhibit (See Datasheet)", 4 VO ADJUST (in) "A 0.1 W 1 % resistor must be directly connected between this pin and pin 7 (GND) to set the output voltage to a value higher than 0.8 V. The temperature stability of the resistor should be 100 ppm/degreesC (or better). The (See Datasheet)", 5 VO SENSE (in) "The sense input allows the regulation circuit to compensate for voltage drop between the module and the load. For optimal voltage accuracy Vo Sense should be connected to Vout. It can also be left disconnected.", 6 VOUT (power) "The regulated positive power output with respect to the GND node.", 7 GND (power) "This is the common ground connection for the Vin and Vout power connections. It is also the 0 VDC reference for the control inputs.", 8 TRACK (in) "This is an analog control input that enables the output voltage to follow an external voltage. This pin becomes active typically 20 ms after the input voltage has been applied, and allows direct control of the output voltage (See Datasheet)", 9 ~{MARGIN DOWN} (in) "When this input is asserted to GND, the output voltage is decreased by 5% from the nominal. The input requires an open-collector (open-drain) interface. It is not TTL compatible. A lower percent change can be accomodated (See Datasheet)", 10 ~{MARGIN UP} (in) "When this input is asserted to GND, the output voltage is increased by 5%. The input requires an open-collector (open-drain) interface. It is not TTL compatible. The percent change can be reduced with a series resistor. For (See Datasheet)"

## PTH03060WAH
designator U?
10 A, 3.3 V Input Non-Isolated Wide Adjust Module, -40 to 85 degC, 10-pin Module (EUW10), Pb-Free (RoHS); Manufacturer: Texas Instruments; PartNumber: PTH03060WAH; Iout(Max)(A): 10; Regulated Outputs(#): 1; SubFamily: Non-Isolated POL; Vin(Max)(V): 3.65; Vin(Min)(V): 2.95; VO Adjustable: TRUE; Vout(Max)(V): 2.5; Vout(Min)(V): 0.8; DatasheetVersion: SLTS215B; PackageVersion: 4205248-3/B; PackageReference: EUW10; PackageDescription: 10-Pin Plastic Special Shape, Body 15.75 x 25.27 mm; Supplier 1: Digi-Key; Supplier Part Number 1: 296-20385-ND; Supplier 2: Farnell; Supplier Part Number 2: 1212252; Supplier 3: Newark; Supplier Part Number 3: 90H3320; Supplier 4: Mouser; Supplier Part Number 4: 595-PTH03060WAH; Eco-Plan: Pb-Free (RoHS); Mounting Technology: Through Hole; ComponentLink1Description: Manufacturer URL; ComponentLink1URL: http://www.ti.com/; ComponentLink2Description: Datasheet; ComponentLink2URL: http://www.ti.com/general/docs/lit/getliterature.tsp?genericPartNumber=PTH03060W&fileType=pdf; ComponentLink3Description: Package Specification; ComponentLink3URL: http://www.ti.com/litv/pdf/mpds144a; ComponentLink4Description: URL Link1; ComponentLink4URL: Samples URL:http://www.ti.com/product/pth03060w#samples
footprint TI-EUW10_V (Module, 10-Leads, Body 25.27x15.75mm)
pins: 1 GND (power) "This is the common ground connection for the Vin and Vout power connections. It is also the 0 VDC reference for the control inputs", 2 VIN (power) "The positive input voltage power node to the module, which is referenced to common GND.", 3 ~{INHIBIT} (in) "The Inhibit pin is an open-collector/drain negative logic input that is referenced to GND. Applying a lowlevel ground signal to this input disables the module’s output and turns off the output voltage. When the Inhibit (See Datasheet)", 4 VO ADJUST (in) "A 0.1 W 1 % resistor must be directly connected between this pin and pin 7 (GND) to set the output voltage to a value higher than 0.8 V. The temperature stability of the resistor should be 100 ppm/degreesC (or better). The (See Datasheet)", 5 VO SENSE (in) "The sense input allows the regulation circuit to compensate for voltage drop between the module and the load. For optimal voltage accuracy Vo Sense should be connected to Vout. It can also be left disconnected.", 6 VOUT (power) "The regulated positive power output with respect to the GND node.", 7 GND (power) "This is the common ground connection for the Vin and Vout power connections. It is also the 0 VDC reference for the control inputs.", 8 TRACK (in) "This is an analog control input that enables the output voltage to follow an external voltage. This pin becomes active typically 20 ms after the input voltage has been applied, and allows direct control of the output voltage (See Datasheet)", 9 ~{MARGIN DOWN} (in) "When this input is asserted to GND, the output voltage is decreased by 5% from the nominal. The input requires an open-collector (open-drain) interface. It is not TTL compatible. A lower percent change can be accomodated (See Datasheet)", 10 ~{MARGIN UP} (in) "When this input is asserted to GND, the output voltage is increased by 5%. The input requires an open-collector (open-drain) interface. It is not TTL compatible. The percent change can be reduced with a series resistor. For (See Datasheet)"